# EAGLE library part MCP3426 (library heck)
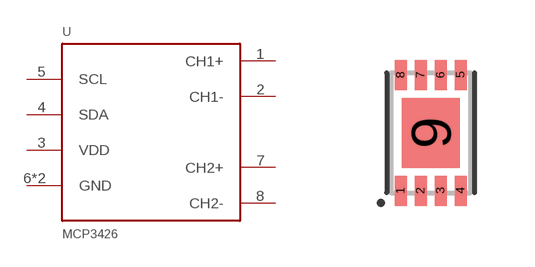
[diagram p45: symbol with the pads of DFN-8; footprint DFN-8]

Designator prefix U

## MCP3426/MC  [DFN-8]
1  CH1+
2  CH1-
3  VDD
4  SDA
5  SCL
6  GND
7  CH2+
8  CH2-
9  GND

## Footprint DFN-8 (pad centres in mm)
smd 0.3 x 0.75: 1 -0.75,-1.45; 2 -0.25,-1.45; 3 0.25,-1.45; 4 0.75,-1.45; 5 0.75,1.45; 6 0.25,1.45; 7 -0.25,1.45; 8 -0.75,1.45
smd 1.45 x 1.75: 9 0,0